# EAGLE library part PYB20-Q24-S5 (library CUI_DCDC_Conv)
12/-12 Vdc, 0.83 A, 20 W, 9~36 Vdc Input Range
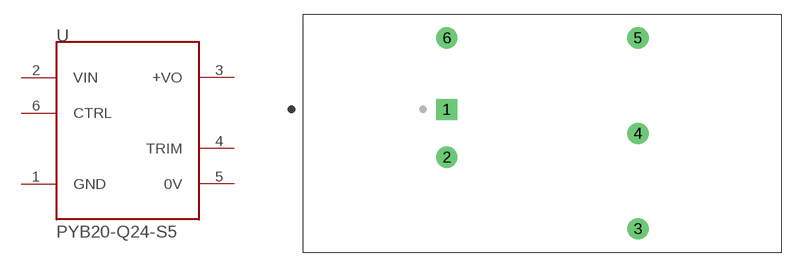
[diagram p2: symbol with the pads of CONV_PYB20-Q24-S5; footprint CONV_PYB20-Q24-S5]

Designator prefix U

## PYB20-Q24-S5 (MANUFACTURER: CUI Inc; PARTREV: 1.04; STANDARD: Manufacturer Recommendations)  [CONV_PYB20-Q24-S5]
1  GND  pwr
2  VIN  in
3  +VO  out
4  TRIM  pas
5  0V  pwr
6  CTRL  in

## Footprint CONV_PYB20-Q24-S5 (pad centres in mm)
drill 1.5 square: 1 -10.16,2.54
drill 1.5: 2 -10.16,-2.54; 3 10.16,-10.16; 4 10.16,0; 5 10.16,10.16; 6 -10.16,10.16